# Altium footprint library CASE-A.PcbLib: 1 footprints
Each footprint in its own frame and in the unit in brackets; x right, y up, seen from the top. Pads: shape width x height; smd on the part's side, far side on the other; paste and mask are expansions set on the pad; w line width, h text height; cw(c..) or ccw(c..) is an arc to the next point about the centre after c.
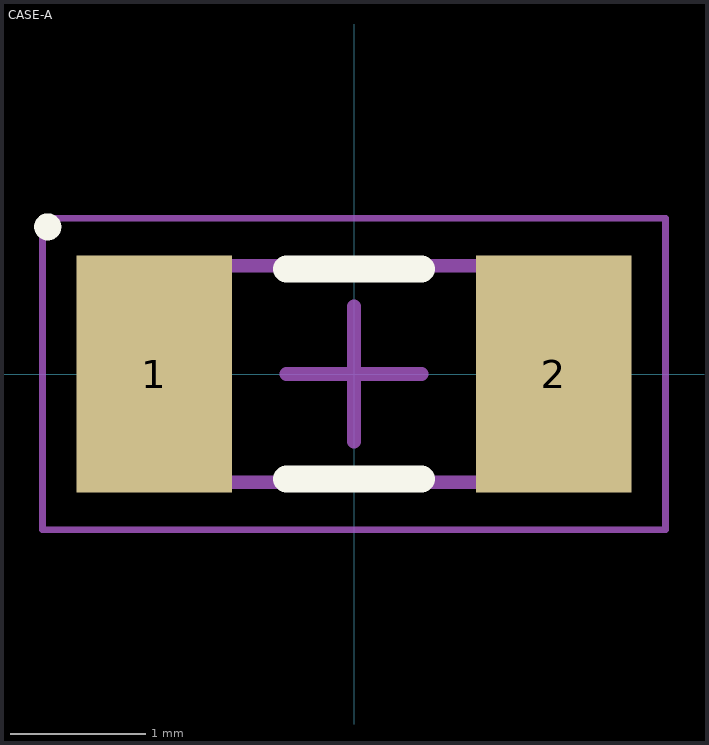
[diagram p0: the footprint, top view; thin cyan lines are the x and y axes]

## CASE-A [mm] "Танталовый, тип А"
height 0.6
pads (2):
  rect 1.15x1.75 smd: 1(-1.475,0) 2(1.475,0)
Top Overlay:
  circle w0.1: c-2.262,1.087 r0.05
  lines w0.2: -0.5,-0.775 0.5,-0.775 ; -0.5,0.775 0.5,0.775
TopAssy:
  lines w0.1: -1.6,-0.8 -1.6,0.8 1.6,0.8 1.6,-0.8 -1.6,-0.8
Mechanical 15:
  lines w0.05: -2.3,-1.15 -2.3,1.15 2.3,1.15 2.3,-1.15 -2.3,-1.15
  lines w0.1: -0.5,0 0.5,0 ; 0,-0.5 0,0.5
3D body: height 0.6, standoff 0, extent -1.6,-0.8 -1.1,0.8
3D body: height 0.6, standoff 0, extent 1.1,-0.8 1.6,0.8
3D body: height 0.6, standoff 0, extent -1.1,-0.8 1.1,0.8